# Altium schematic symbol library SCH - ARM CORTEX - NXP LPC54S016JET180.SchLib: 1 symbol
Pins are listed as number, name and electrical type; pins without a type are passive.

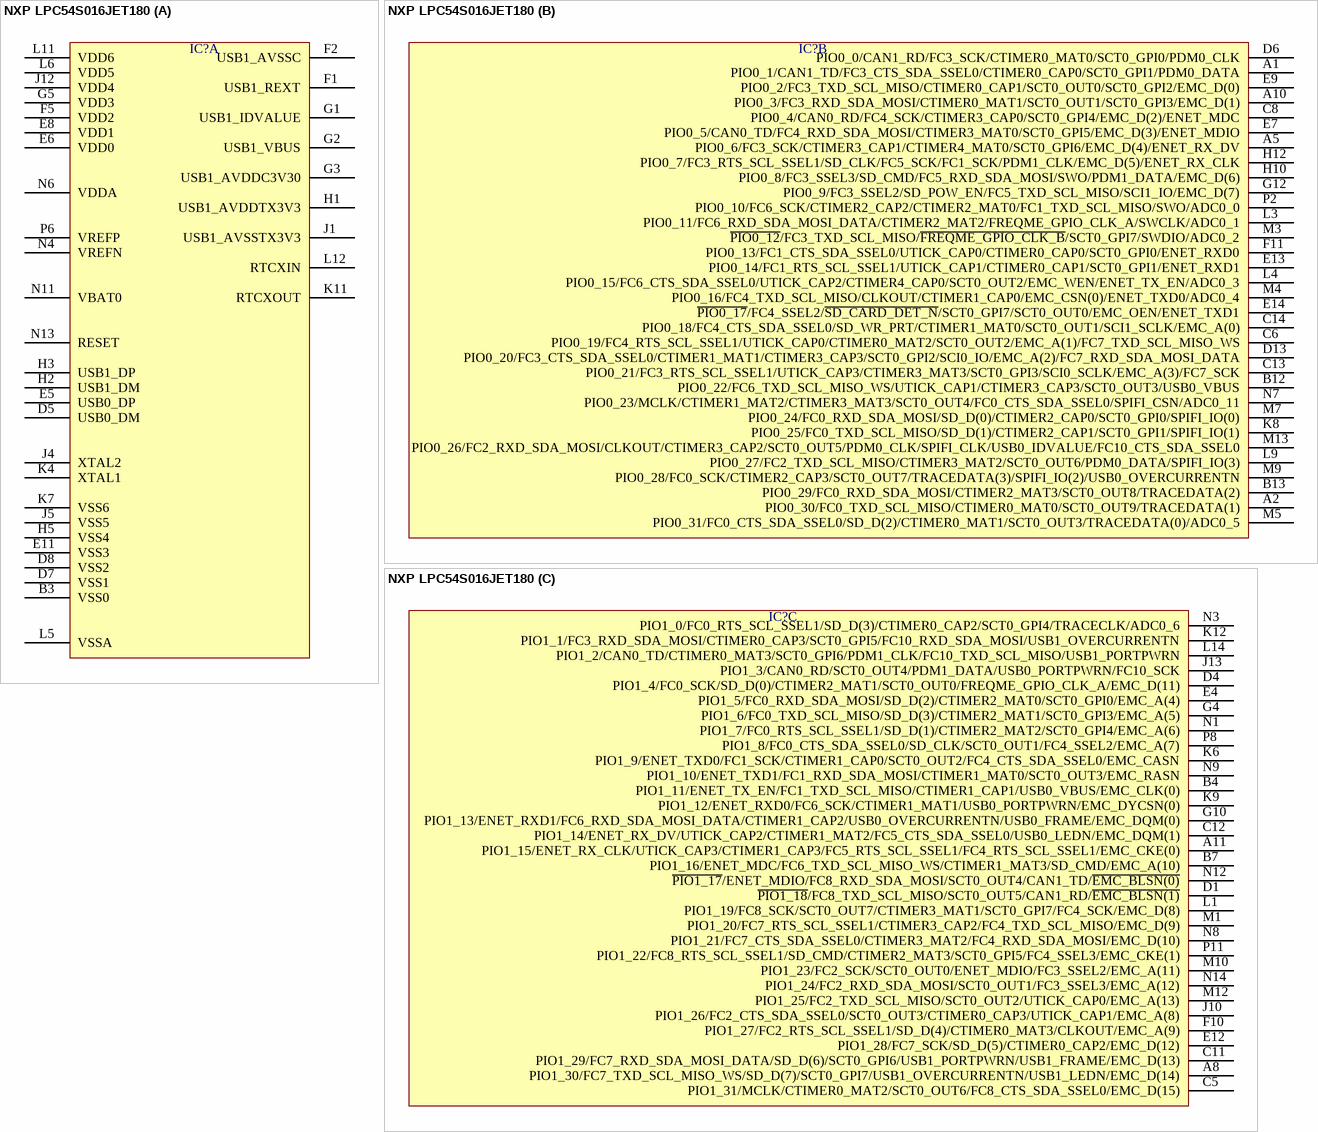
[diagram p0: symbol NXP LPC54S016JET180]

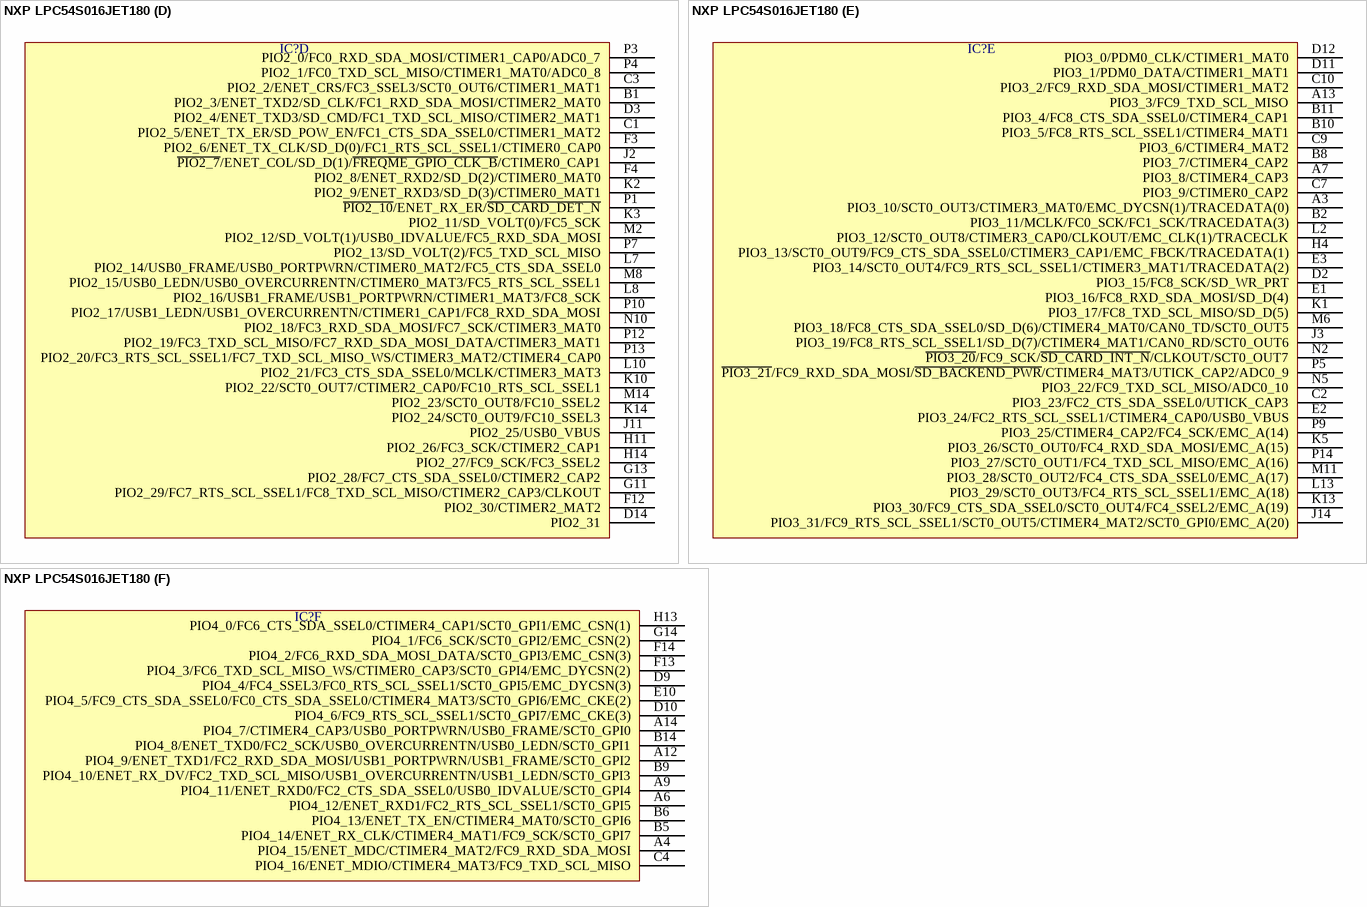
[diagram p1: symbol NXP LPC54S016JET180]

## NXP LPC54S016JET180
designator IC?  (value not drawn)
part A pins: B3 VSS0, D5 USB0_DM, D7 VSS1, D8 VSS2, E5 USB0_DP, E6 VDD0, E8 VDD1, E11 VSS3, F1 USB1_REXT, F2 USB1_AVSSC, F5 VDD2, G1 USB1_IDVALUE, G2 USB1_VBUS, G3 USB1_AVDDC3V30, G5 VDD3, H1 USB1_AVDDTX3V3, H2 USB1_DM, H3 USB1_DP, H5 VSS4, J1 USB1_AVSSTX3V3, J4 XTAL2, J5 VSS5, J12 VDD4, K4 XTAL1, K7 VSS6, K11 RTCXOUT, L5 VSSA, L6 VDD5, L11 VDD6, L12 RTCXIN, N4 VREFN, N6 VDDA, N11 VBAT0, N13 RESET, P6 VREFP
part B pins: A1 PIO0_1/CAN1_TD/FC3_CTS_SDA_SSEL0/CTIMER0_CAP0/SCT0_GPI1/PDM0_DATA, A2 PIO0_30/FC0_TXD_SCL_MISO/CTIMER0_MAT0/SCT0_OUT9/TRACEDATA(1), A5 PIO0_6/FC3_SCK/CTIMER3_CAP1/CTIMER4_MAT0/SCT0_GPI6/EMC_D(4)/ENET_RX_DV, A10 PIO0_3/FC3_RXD_SDA_MOSI/CTIMER0_MAT1/SCT0_OUT1/SCT0_GPI3/EMC_D(1), B12 PIO0_22/FC6_TXD_SCL_MISO_WS/UTICK_CAP1/CTIMER3_CAP3/SCT0_OUT3/USB0_VBUS, B13 PIO0_29/FC0_RXD_SDA_MOSI/CTIMER2_MAT3/SCT0_OUT8/TRACEDATA(2), C6 PIO0_19/FC4_RTS_SCL_SSEL1/UTICK_CAP0/CTIMER0_MAT2/SCT0_OUT2/EMC_A(1)/FC7_TXD_SCL_MISO_WS, C8 PIO0_4/CAN0_RD/FC4_SCK/CTIMER3_CAP0/SCT0_GPI4/EMC_D(2)/ENET_MDC, C13 PIO0_21/FC3_RTS_SCL_SSEL1/UTICK_CAP3/CTIMER3_MAT3/SCT0_GPI3/SCI0_SCLK/EMC_A(3)/FC7_SCK, C14 PIO0_18/FC4_CTS_SDA_SSEL0/SD_WR_PRT/CTIMER1_MAT0/SCT0_OUT1/SCI1_SCLK/EMC_A(0), D6 PIO0_0/CAN1_RD/FC3_SCK/CTIMER0_MAT0/SCT0_GPI0/PDM0_CLK, D13 PIO0_20/FC3_CTS_SDA_SSEL0/CTIMER1_MAT1/CTIMER3_CAP3/SCT0_GPI2/SCI0_IO/EMC_A(2)/FC7_RXD_SDA_MOSI_DATA, E7 PIO0_5/CAN0_TD/FC4_RXD_SDA_MOSI/CTIMER3_MAT0/SCT0_GPI5/EMC_D(3)/ENET_MDIO, E9 PIO0_2/FC3_TXD_SCL_MISO/CTIMER0_CAP1/SCT0_OUT0/SCT0_GPI2/EMC_D(0), E13 PIO0_14/FC1_RTS_SCL_SSEL1/UTICK_CAP1/CTIMER0_CAP1/SCT0_GPI1/ENET_RXD1, E14 ~{PIO0_17}/FC4_SSEL2/~{SD_CARD_DET_N}/SCT0_GPI7/SCT0_OUT0/EMC_OEN/ENET_TXD1, F11 PIO0_13/FC1_CTS_SDA_SSEL0/UTICK_CAP0/CTIMER0_CAP0/SCT0_GPI0/ENET_RXD0, G12 PIO0_9/FC3_SSEL2/SD_POW_EN/FC5_TXD_SCL_MISO/SCI1_IO/EMC_D(7), H10 PIO0_8/FC3_SSEL3/SD_CMD/FC5_RXD_SDA_MOSI/SWO/PDM1_DATA/EMC_D(6), H12 PIO0_7/FC3_RTS_SCL_SSEL1/SD_CLK/FC5_SCK/FC1_SCK/PDM1_CLK/EMC_D(5)/ENET_RX_CLK, K8 PIO0_25/FC0_TXD_SCL_MISO/SD_D(1)/CTIMER2_CAP1/SCT0_GPI1/SPIFI_IO(1), L3 PIO0_11/FC6_RXD_SDA_MOSI_DATA/CTIMER2_MAT2/FREQME_GPIO_CLK_A/SWCLK/ADC0_1, L4 PIO0_15/FC6_CTS_SDA_SSEL0/UTICK_CAP2/CTIMER4_CAP0/SCT0_OUT2/EMC_WEN/ENET_TX_EN/ADC0_3, L9 PIO0_27/FC2_TXD_SCL_MISO/CTIMER3_MAT2/SCT0_OUT6/PDM0_DATA/SPIFI_IO(3), M3 ~{PIO0_12}/FC3_TXD_SCL_MISO/~{FREQME_GPIO_CLK_B}/SCT0_GPI7/SWDIO/ADC0_2, M4 PIO0_16/FC4_TXD_SCL_MISO/CLKOUT/CTIMER1_CAP0/EMC_CSN(0)/ENET_TXD0/ADC0_4, M5 PIO0_31/FC0_CTS_SDA_SSEL0/SD_D(2)/CTIMER0_MAT1/SCT0_OUT3/TRACEDATA(0)/ADC0_5, M7 PIO0_24/FC0_RXD_SDA_MOSI/SD_D(0)/CTIMER2_CAP0/SCT0_GPI0/SPIFI_IO(0), M9 PIO0_28/FC0_SCK/CTIMER2_CAP3/SCT0_OUT7/TRACEDATA(3)/SPIFI_IO(2)/USB0_OVERCURRENTN, M13 PIO0_26/FC2_RXD_SDA_MOSI/CLKOUT/CTIMER3_CAP2/SCT0_OUT5/PDM0_CLK/SPIFI_CLK/USB0_IDVALUE/FC10_CTS_SDA_SSEL0, N7 PIO0_23/MCLK/CTIMER1_MAT2/CTIMER3_MAT3/SCT0_OUT4/FC0_CTS_SDA_SSEL0/SPIFI_CSN/ADC0_11, P2 PIO0_10/FC6_SCK/CTIMER2_CAP2/CTIMER2_MAT0/FC1_TXD_SCL_MISO/SWO/ADC0_0
part C pins: A8 PIO1_30/FC7_TXD_SCL_MISO_WS/SD_D(7)/SCT0_GPI7/USB1_OVERCURRENTN/USB1_LEDN/EMC_D(14), A11 PIO1_15/ENET_RX_CLK/UTICK_CAP3/CTIMER1_CAP3/FC5_RTS_SCL_SSEL1/FC4_RTS_SCL_SSEL1/EMC_CKE(0), B4 PIO1_11/ENET_TX_EN/FC1_TXD_SCL_MISO/CTIMER1_CAP1/USB0_VBUS/EMC_CLK(0), B7 PIO1_16/ENET_MDC/FC6_TXD_SCL_MISO_WS/CTIMER1_MAT3/SD_CMD/EMC_A(10), C5 PIO1_31/MCLK/CTIMER0_MAT2/SCT0_OUT6/FC8_CTS_SDA_SSEL0/EMC_D(15), C11 PIO1_29/FC7_RXD_SDA_MOSI_DATA/SD_D(6)/SCT0_GPI6/USB1_PORTPWRN/USB1_FRAME/EMC_D(13), C12 PIO1_14/ENET_RX_DV/UTICK_CAP2/CTIMER1_MAT2/FC5_CTS_SDA_SSEL0/USB0_LEDN/EMC_DQM(1), D1 ~{PIO1_18}/FC8_TXD_SCL_MISO/SCT0_OUT5/CAN1_RD/~{EMC_BLSN(1)}, D4 PIO1_4/FC0_SCK/SD_D(0)/CTIMER2_MAT1/SCT0_OUT0/FREQME_GPIO_CLK_A/EMC_D(11), E4 PIO1_5/FC0_RXD_SDA_MOSI/SD_D(2)/CTIMER2_MAT0/SCT0_GPI0/EMC_A(4), E12 PIO1_28/FC7_SCK/SD_D(5)/CTIMER0_CAP2/EMC_D(12), F10 PIO1_27/FC2_RTS_SCL_SSEL1/SD_D(4)/CTIMER0_MAT3/CLKOUT/EMC_A(9), G4 PIO1_6/FC0_TXD_SCL_MISO/SD_D(3)/CTIMER2_MAT1/SCT0_GPI3/EMC_A(5), G10 PIO1_13/ENET_RXD1/FC6_RXD_SDA_MOSI_DATA/CTIMER1_CAP2/USB0_OVERCURRENTN/USB0_FRAME/EMC_DQM(0), J10 PIO1_26/FC2_CTS_SDA_SSEL0/SCT0_OUT3/CTIMER0_CAP3/UTICK_CAP1/EMC_A(8), J13 PIO1_3/CAN0_RD/SCT0_OUT4/PDM1_DATA/USB0_PORTPWRN/FC10_SCK, K6 PIO1_9/ENET_TXD0/FC1_SCK/CTIMER1_CAP0/SCT0_OUT2/FC4_CTS_SDA_SSEL0/EMC_CASN, K9 PIO1_12/ENET_RXD0/FC6_SCK/CTIMER1_MAT1/USB0_PORTPWRN/EMC_DYCSN(0), K12 PIO1_1/FC3_RXD_SDA_MOSI/CTIMER0_CAP3/SCT0_GPI5/FC10_RXD_SDA_MOSI/USB1_OVERCURRENTN, L1 PIO1_19/FC8_SCK/SCT0_OUT7/CTIMER3_MAT1/SCT0_GPI7/FC4_SCK/EMC_D(8), L14 PIO1_2/CAN0_TD/CTIMER0_MAT3/SCT0_GPI6/PDM1_CLK/FC10_TXD_SCL_MISO/USB1_PORTPWRN, M1 PIO1_20/FC7_RTS_SCL_SSEL1/CTIMER3_CAP2/FC4_TXD_SCL_MISO/EMC_D(9), M10 PIO1_23/FC2_SCK/SCT0_OUT0/ENET_MDIO/FC3_SSEL2/EMC_A(11), M12 PIO1_25/FC2_TXD_SCL_MISO/SCT0_OUT2/UTICK_CAP0/EMC_A(13), N1 PIO1_7/FC0_RTS_SCL_SSEL1/SD_D(1)/CTIMER2_MAT2/SCT0_GPI4/EMC_A(6), N3 PIO1_0/FC0_RTS_SCL_SSEL1/SD_D(3)/CTIMER0_CAP2/SCT0_GPI4/TRACECLK/ADC0_6, N8 PIO1_21/FC7_CTS_SDA_SSEL0/CTIMER3_MAT2/FC4_RXD_SDA_MOSI/EMC_D(10), N9 PIO1_10/ENET_TXD1/FC1_RXD_SDA_MOSI/CTIMER1_MAT0/SCT0_OUT3/EMC_RASN, N12 ~{PIO1_17}/ENET_MDIO/FC8_RXD_SDA_MOSI/SCT0_OUT4/CAN1_TD/~{EMC_BLSN(0)}, N14 PIO1_24/FC2_RXD_SDA_MOSI/SCT0_OUT1/FC3_SSEL3/EMC_A(12), P8 PIO1_8/FC0_CTS_SDA_SSEL0/SD_CLK/SCT0_OUT1/FC4_SSEL2/EMC_A(7), P11 PIO1_22/FC8_RTS_SCL_SSEL1/SD_CMD/CTIMER2_MAT3/SCT0_GPI5/FC4_SSEL3/EMC_CKE(1)
part D pins: B1 PIO2_3/ENET_TXD2/SD_CLK/FC1_RXD_SDA_MOSI/CTIMER2_MAT0, C1 PIO2_5/ENET_TX_ER/SD_POW_EN/FC1_CTS_SDA_SSEL0/CTIMER1_MAT2, C3 PIO2_2/ENET_CRS/FC3_SSEL3/SCT0_OUT6/CTIMER1_MAT1, D3 PIO2_4/ENET_TXD3/SD_CMD/FC1_TXD_SCL_MISO/CTIMER2_MAT1, D14 PIO2_31, F3 PIO2_6/ENET_TX_CLK/SD_D(0)/FC1_RTS_SCL_SSEL1/CTIMER0_CAP0, F4 PIO2_8/ENET_RXD2/SD_D(2)/CTIMER0_MAT0, F12 PIO2_30/CTIMER2_MAT2, G11 PIO2_29/FC7_RTS_SCL_SSEL1/FC8_TXD_SCL_MISO/CTIMER2_CAP3/CLKOUT, G13 PIO2_28/FC7_CTS_SDA_SSEL0/CTIMER2_CAP2, H11 PIO2_26/FC3_SCK/CTIMER2_CAP1, H14 PIO2_27/FC9_SCK/FC3_SSEL2, J2 ~{PIO2_7}/ENET_COL/SD_D(1)/~{FREQME_GPIO_CLK_B}/CTIMER0_CAP1, J11 PIO2_25/USB0_VBUS, K2 PIO2_9/ENET_RXD3/SD_D(3)/CTIMER0_MAT1, K3 PIO2_11/SD_VOLT(0)/FC5_SCK, K10 PIO2_22/SCT0_OUT7/CTIMER2_CAP0/FC10_RTS_SCL_SSEL1, K14 PIO2_24/SCT0_OUT9/FC10_SSEL3, L7 PIO2_14/USB0_FRAME/USB0_PORTPWRN/CTIMER0_MAT2/FC5_CTS_SDA_SSEL0, L8 PIO2_16/USB1_FRAME/USB1_PORTPWRN/CTIMER1_MAT3/FC8_SCK, L10 PIO2_21/FC3_CTS_SDA_SSEL0/MCLK/CTIMER3_MAT3, M2 PIO2_12/SD_VOLT(1)/USB0_IDVALUE/FC5_RXD_SDA_MOSI, M8 PIO2_15/USB0_LEDN/USB0_OVERCURRENTN/CTIMER0_MAT3/FC5_RTS_SCL_SSEL1, M14 PIO2_23/SCT0_OUT8/FC10_SSEL2, N10 PIO2_18/FC3_RXD_SDA_MOSI/FC7_SCK/CTIMER3_MAT0, P1 ~{PIO2_10}/ENET_RX_ER/~{SD_CARD_DET_N}, P3 PIO2_0/FC0_RXD_SDA_MOSI/CTIMER1_CAP0/ADC0_7, P4 PIO2_1/FC0_TXD_SCL_MISO/CTIMER1_MAT0/ADC0_8, P7 PIO2_13/SD_VOLT(2)/FC5_TXD_SCL_MISO, P10 PIO2_17/USB1_LEDN/USB1_OVERCURRENTN/CTIMER1_CAP1/FC8_RXD_SDA_MOSI, P12 PIO2_19/FC3_TXD_SCL_MISO/FC7_RXD_SDA_MOSI_DATA/CTIMER3_MAT1, P13 PIO2_20/FC3_RTS_SCL_SSEL1/FC7_TXD_SCL_MISO_WS/CTIMER3_MAT2/CTIMER4_CAP0
part E pins: A3 PIO3_10/SCT0_OUT3/CTIMER3_MAT0/EMC_DYCSN(1)/TRACEDATA(0), A7 PIO3_8/CTIMER4_CAP3, A13 PIO3_3/FC9_TXD_SCL_MISO, B2 PIO3_11/MCLK/FC0_SCK/FC1_SCK/TRACEDATA(3), B8 PIO3_7/CTIMER4_CAP2, B10 PIO3_5/FC8_RTS_SCL_SSEL1/CTIMER4_MAT1, B11 PIO3_4/FC8_CTS_SDA_SSEL0/CTIMER4_CAP1, C2 PIO3_23/FC2_CTS_SDA_SSEL0/UTICK_CAP3, C7 PIO3_9/CTIMER0_CAP2, C9 PIO3_6/CTIMER4_MAT2, C10 PIO3_2/FC9_RXD_SDA_MOSI/CTIMER1_MAT2, D2 PIO3_15/FC8_SCK/SD_WR_PRT, D11 PIO3_1/PDM0_DATA/CTIMER1_MAT1, D12 PIO3_0/PDM0_CLK/CTIMER1_MAT0, E1 PIO3_16/FC8_RXD_SDA_MOSI/SD_D(4), E2 PIO3_24/FC2_RTS_SCL_SSEL1/CTIMER4_CAP0/USB0_VBUS, E3 PIO3_14/SCT0_OUT4/FC9_RTS_SCL_SSEL1/CTIMER3_MAT1/TRACEDATA(2), H4 PIO3_13/SCT0_OUT9/FC9_CTS_SDA_SSEL0/CTIMER3_CAP1/EMC_FBCK/TRACEDATA(1), J3 PIO3_19/FC8_RTS_SCL_SSEL1/SD_D(7)/CTIMER4_MAT1/CAN0_RD/SCT0_OUT6, J14 PIO3_31/FC9_RTS_SCL_SSEL1/SCT0_OUT5/CTIMER4_MAT2/SCT0_GPI0/EMC_A(20), K1 PIO3_17/FC8_TXD_SCL_MISO/SD_D(5), K5 PIO3_26/SCT0_OUT0/FC4_RXD_SDA_MOSI/EMC_A(15), K13 PIO3_30/FC9_CTS_SDA_SSEL0/SCT0_OUT4/FC4_SSEL2/EMC_A(19), L2 PIO3_12/SCT0_OUT8/CTIMER3_CAP0/CLKOUT/EMC_CLK(1)/TRACECLK, L13 PIO3_29/SCT0_OUT3/FC4_RTS_SCL_SSEL1/EMC_A(18), M6 PIO3_18/FC8_CTS_SDA_SSEL0/SD_D(6)/CTIMER4_MAT0/CAN0_TD/SCT0_OUT5, M11 PIO3_28/SCT0_OUT2/FC4_CTS_SDA_SSEL0/EMC_A(17), N2 ~{PIO3_20}/FC9_SCK/~{SD_CARD_INT_N}/CLKOUT/SCT0_OUT7, N5 PIO3_22/FC9_TXD_SCL_MISO/ADC0_10, P5 ~{PIO3_21}/FC9_RXD_SDA_MOSI/~{SD_BACKEND_PWR}/CTIMER4_MAT3/UTICK_CAP2/ADC0_9, P9 PIO3_25/CTIMER4_CAP2/FC4_SCK/EMC_A(14), P14 PIO3_27/SCT0_OUT1/FC4_TXD_SCL_MISO/EMC_A(16)
part F pins: A4 PIO4_15/ENET_MDC/CTIMER4_MAT2/FC9_RXD_SDA_MOSI, A6 PIO4_12/ENET_RXD1/FC2_RTS_SCL_SSEL1/SCT0_GPI5, A9 PIO4_11/ENET_RXD0/FC2_CTS_SDA_SSEL0/USB0_IDVALUE/SCT0_GPI4, A12 PIO4_9/ENET_TXD1/FC2_RXD_SDA_MOSI/USB1_PORTPWRN/USB1_FRAME/SCT0_GPI2, A14 PIO4_7/CTIMER4_CAP3/USB0_PORTPWRN/USB0_FRAME/SCT0_GPI0, B5 PIO4_14/ENET_RX_CLK/CTIMER4_MAT1/FC9_SCK/SCT0_GPI7, B6 PIO4_13/ENET_TX_EN/CTIMER4_MAT0/SCT0_GPI6, B9 PIO4_10/ENET_RX_DV/FC2_TXD_SCL_MISO/USB1_OVERCURRENTN/USB1_LEDN/SCT0_GPI3, B14 PIO4_8/ENET_TXD0/FC2_SCK/USB0_OVERCURRENTN/USB0_LEDN/SCT0_GPI1, C4 PIO4_16/ENET_MDIO/CTIMER4_MAT3/FC9_TXD_SCL_MISO, D9 PIO4_4/FC4_SSEL3/FC0_RTS_SCL_SSEL1/SCT0_GPI5/EMC_DYCSN(3), D10 PIO4_6/FC9_RTS_SCL_SSEL1/SCT0_GPI7/EMC_CKE(3), E10 PIO4_5/FC9_CTS_SDA_SSEL0/FC0_CTS_SDA_SSEL0/CTIMER4_MAT3/SCT0_GPI6/EMC_CKE(2), F13 PIO4_3/FC6_TXD_SCL_MISO_WS/CTIMER0_CAP3/SCT0_GPI4/EMC_DYCSN(2), F14 PIO4_2/FC6_RXD_SDA_MOSI_DATA/SCT0_GPI3/EMC_CSN(3), G14 PIO4_1/FC6_SCK/SCT0_GPI2/EMC_CSN(2), H13 PIO4_0/FC6_CTS_SDA_SSEL0/CTIMER4_CAP1/SCT0_GPI1/EMC_CSN(1)